# EAGLE library part SHT31-DIS-B (library SHT31-DIS-B)
SHT31 Series 5.5 V 800 µA Surface Mount Humidity and Temperature Sensor
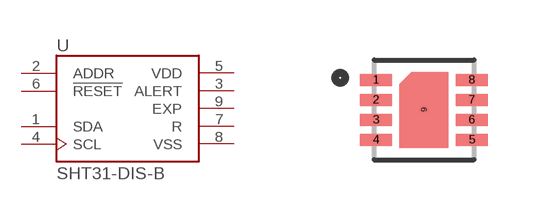
[diagram p0: symbol with the pads of SON50P250X250X100-9N; footprint SON50P250X250X100-9N]

Designator prefix U

## SHT31-DIS-B (Availability: Unavailable; Description: SHT31 Series 5.5 V 800 µA Surface Mount Humidity and Temperature Sensor; MF: Sensirion AG; MP: SHT31-DIS-B; Package: TDFN-8 Sensirion; Price: None)  [SON50P250X250X100-9N]
1  SDA
2  ADDR  in
3  ALERT  out
4  SCL
5  VDD  pwr
6  !RESET  in
7  R  pwr
8  VSS  pwr
9  EXP  pwr

## Footprint SON50P250X250X100-9N (pad centres in mm)
smd 0.8 x 0.3: 1 -1.2,0.75; 2 -1.2,0.25; 3 -1.2,-0.25; 4 -1.2,-0.75; 5 1.2,-0.75; 6 1.2,-0.25; 7 1.2,0.25; 8 1.2,0.75
smd 0.2 x 1: 9 0,0